# EAGLE library part CRA06S (library DWM)
Resistor Array CRA06S 8-Pins (Datasheet) <http://www.farnell.com/datasheets/1914750.pdf>
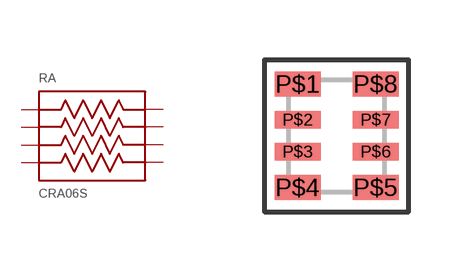
[diagram p0: symbol with the pads of CRA06S08; footprint CRA06S08]

Designator prefix RA

## CRA06S  [CRA06S08]
P$1  P$1
P$2  P$2
P$3  P$3
P$4  P$4
P$5  P$5
P$6  P$6
P$7  P$7
P$8  P$8

## Footprint CRA06S08 (pad centres in mm)
smd 1.15 x 0.63: P$1 -0.975,1.295; P$4 -0.975,-1.295; P$5 0.975,-1.295; P$8 0.975,1.295
smd 1.15 x 0.44: P$2 -0.975,0.4; P$3 -0.975,-0.4; P$6 0.975,-0.4; P$7 0.975,0.4